# Altium schematic symbol library Battery_Management.SchLib: 152 symbols (part 1 of 2)
Pins are listed as number, name and electrical type; pins without a type are passive.

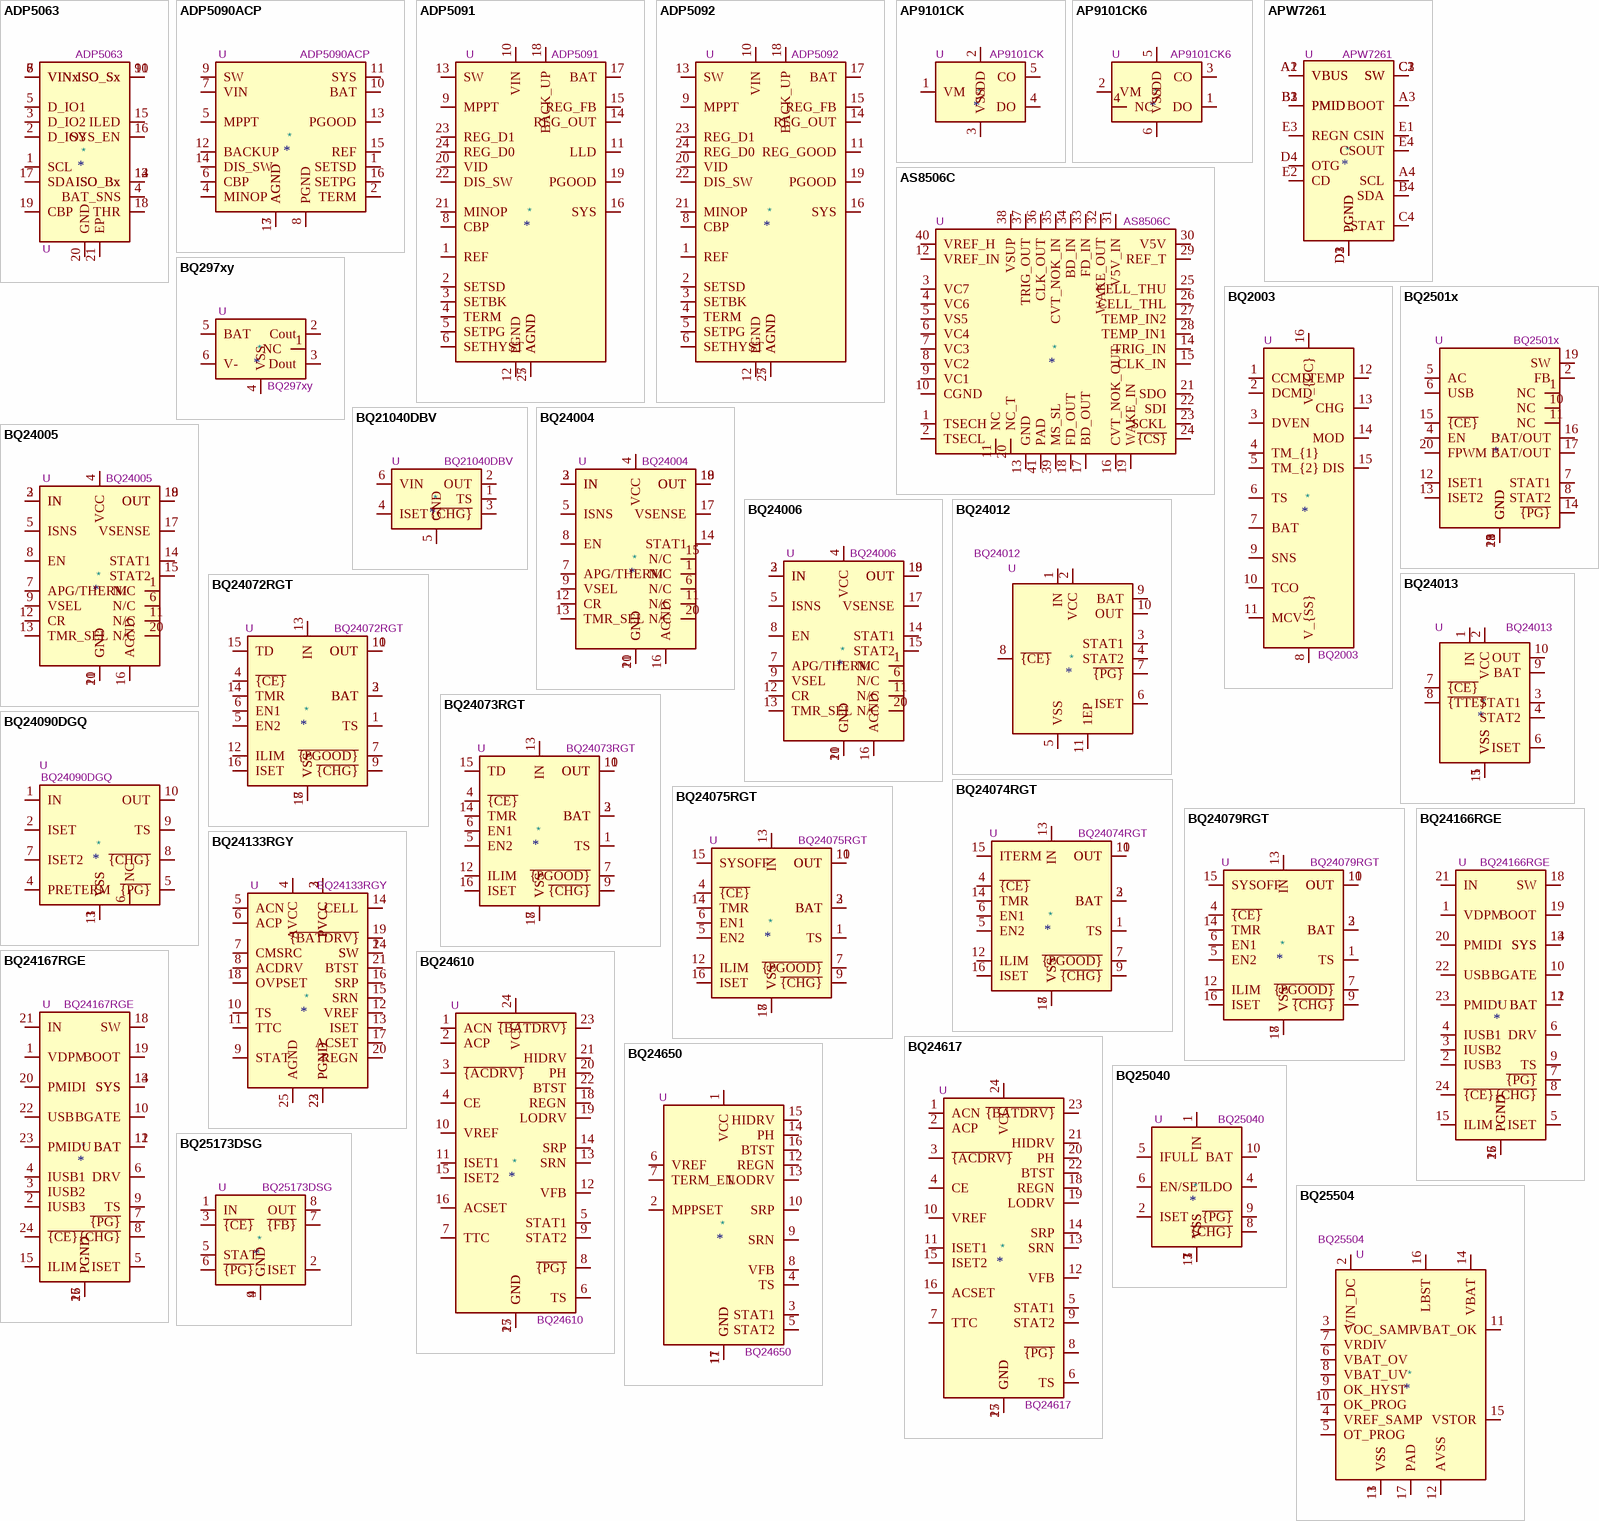
[diagram p0: symbols ADP5063 to BQ25504]

## ADP5063
designator *  value ADP5063  Reference: U
Linear LiFePO4 Battery Charger with Power Path and USB Compatibility, LFCSP; ki_keywords: LiFePo4 Battery USB PMIC; ki_fp_filters: *QFN*1EP*4x4mm*P0.5mm*; Footprint: Package_DFN_QFN:QFN-20-1EP_4x4mm_P0.5mm_EP2.5x2.5mm; Datasheet: https://www.analog.com/media/en/technical-documentation/data-sheets/ADP5063.pdf; Description_: Linear LiFePO4 Battery Charger with Power Path and USB Compatibility, LFCSP
pins: 1 SCL, 2 D_IO3, 3 D_IO2, 4 BAT_SNS, 5 D_IO1, 6 VINx, 7 VINx, 8 VINx, 9 ISO_Sx, 10 ISO_Sx, 11 ISO_Sx, 12 ISO_Bx, 13 ISO_Bx, 14 ISO_Bx, 15 ILED, 16 SYS_EN, 17 SDA, 18 THR, 19 CBP, 20 GND, 21 EP

## ADP5090ACP
designator *  value ADP5090ACP  Reference: U
Ultralow Power Boost Regulator with MPPT and Charge Management, LFCSP-16; ki_keywords: boost regulator MPPT charge; ki_fp_filters: LFCSP*1EP*3x3mm*P0.5mm*; Footprint: Package_CSP:LFCSP-16-1EP_3x3mm_P0.5mm_EP1.7x1.7mm; Datasheet: https://www.analog.com/media/en/technical-documentation/data-sheets/ADP5090.pdf; Description_: Ultralow Power Boost Regulator with MPPT and Charge Management, LFCSP-16
pins: 1 SETSD, 2 TERM, 3 AGND, 4 MINOP, 5 MPPT, 6 CBP, 7 VIN, 8 PGND, 9 SW, 10 BAT, 11 SYS, 12 BACKUP, 13 PGOOD, 14 DIS_SW, 15 REF, 16 SETPG, 17 AGND

## ADP5091
designator *  value ADP5091  Reference: U
Ultralow Power Energy Harvester PMUs with MPPT and Charge Management, LFCSP-24; ki_fp_filters: LFCSP*1EP*4x4mm*P0.5mm*; Footprint: Package_CSP:LFCSP-24-1EP_4x4mm_P0.5mm_EP2.3x2.3mm; Datasheet: https://www.analog.com/media/en/technical-documentation/data-sheets/ADP5091-5092.pdf; Description_: Ultralow Power Energy Harvester PMUs with MPPT and Charge Management, LFCSP-24; ki_keywords: energy harvester
pins: 1 REF, 2 SETSD, 3 SETBK, 4 TERM, 5 SETPG, 6 SETHYST, 7 AGND, 8 CBP, 9 MPPT, 10 VIN, 11 LLD, 12 PGND, 13 SW, 14 REG_OUT, 15 REG_FB, 16 SYS, 17 BAT, 18 BACK_UP, 19 PGOOD, 20 VID, 21 MINOP, 22 DIS_SW, 23 REG_D1, 24 REG_D0, 25 AGND

## ADP5092
designator *  value ADP5092  Reference: U
Ultralow Power Energy Harvester PMUs with MPPT and Charge Management, LFCSP-24; ki_fp_filters: LFCSP*1EP*4x4mm*P0.5mm*; Footprint: Package_CSP:LFCSP-24-1EP_4x4mm_P0.5mm_EP2.3x2.3mm; Datasheet: https://www.analog.com/media/en/technical-documentation/data-sheets/ADP5091-5092.pdf; Description_: Ultralow Power Energy Harvester PMUs with MPPT and Charge Management, LFCSP-24; ki_keywords: energy harvester
pins: 1 REF, 2 SETSD, 3 SETBK, 4 TERM, 5 SETPG, 6 SETHYST, 7 AGND, 8 CBP, 9 MPPT, 10 VIN, 11 REG_GOOD, 12 PGND, 13 SW, 14 REG_OUT, 15 REG_FB, 16 SYS, 17 BAT, 18 BACK_UP, 19 PGOOD, 20 VID, 21 MINOP, 22 DIS_SW, 23 REG_D1, 24 REG_D0, 25 AGND

## AP9101CK
designator *  value AP9101CK  Reference: U
Li+ Battery Protection IC for Single Cell Pack, SOT-23-5; ki_keywords: battery protection li-ion li-po; ki_fp_filters: SOT?23*; Footprint: Package_TO_SOT_SMD:SOT-23-5; Datasheet: https://www.diodes.com/assets/Datasheets/AP9101C.pdf; Description_: Li+ Battery Protection IC for Single Cell Pack, SOT-23-5
pins: 1 VM, 2 VDD, 3 VSS, 4 DO, 5 CO

## AP9101CK6
designator *  value AP9101CK6  Reference: U
Li+ Battery Protection IC for Single Cell Pack, SOT-23-6; ki_keywords: battery protection li-ion li-po; ki_fp_filters: SOT?23*; Footprint: Package_TO_SOT_SMD:SOT-23-6; Datasheet: https://www.diodes.com/assets/Datasheets/AP9101C.pdf; Description_: Li+ Battery Protection IC for Single Cell Pack, SOT-23-6
pins: 1 DO, 2 VM, 3 CO, 4 NC, 5 VDD, 6 VSS

## APW7261
designator *  value APW7261  Reference: U
USB-OTG switch-mode lithium battery charger, WLCSP-20; ki_keywords: lipo; ki_fp_filters: Anpec*WLCSP*1.76x2.03mm*Layout4x5*P0.4mm*; Footprint: Package_CSP:Anpec_WLCSP-20_1.76x2.03mm_Layout4x5_P0.4mm; Datasheet: https://www.lcsc.com/datasheet/lcsc_datasheet_2007032014_Anpec-Elec-APW7261HAI-TRG_C691404.pdf; Description_: USB-OTG switch-mode lithium battery charger, WLCSP-20
pins: A1 VBUS, A2 VBUS, A3 BOOT, A4 SCL, B1 PMID, B2 PMID, B3 PMID, B4 SDA, C1 SW, C2 SW, C3 SW, C4 STAT, D1 PGND, D2 PGND, D3 PGND, D4 OTG, E1 CSIN, E2 CD, E3 REGN, E4 CSOUT

## AS8506C
designator *  value AS8506C  Reference: U
Stackable cell monitor, cell balancer, 3-7 Cells, SPI Interface; ki_keywords: battery balance lithium charge afe; ki_fp_filters: QFN*6x6mm*P0.5mm*; Footprint: Package_DFN_QFN:QFN-40-1EP_6x6mm_P0.5mm_EP4.6x4.6mm; Datasheet: http://ams.com/eng/content/download/476603/1402377/252935; Description_: Stackable cell monitor, cell balancer, 3-7 Cells, SPI Interface
pins: 1 TSECH, 2 TSECL, 3 VC7, 4 VC6, 5 VS5, 6 VC4, 7 VC3, 8 VC2, 9 VC1, 10 CGND, 11 NC, 12 VREF_IN, 13 GND, 14 TRIG_IN, 15 CLK_IN, 16 CVT_NOK_OUT, 17 BD_OUT, 18 FD_OUT, 19 WAKE_IN, 20 NC_T, 21 SDO, 22 SDI, 23 SCKL, 24 ~{{CS}}, 25 CELL_THU, 26 CELL_THL, 27 TEMP_IN2, 28 TEMP_IN1, 29 REF_T, 30 V5V, 31 V5V_IN, 32 WAKE_OUT, 33 FD_IN, 34 BD_IN, 35 CVT_NOK_IN, 36 CLK_OUT, 37 TRIG_OUT, 38 VSUP, 39 MS_SL, 40 VREF_H, 41 PAD

## BQ297xy
designator *  value BQ297xy  Reference: U
Voltage and Current Protection for Single-Cell Li-Ion and Li-Polymer Batteries; ki_keywords: protection Li-Ion Li-Pol; ki_fp_filters: WSON*1.5x1.5mm*P0.5mm*; Footprint: Package_SON:WSON-6_1.5x1.5mm_P0.5mm; Datasheet: http://www.ti.com/lit/ds/symlink/bq2970.pdf; Description_: Voltage and Current Protection for Single-Cell Li-Ion and Li-Polymer Batteries
pins: 1 NC, 2 Cout, 3 Dout, 4 VSS, 5 BAT, 6 V-

## BQ2003
designator *  value BQ2003  Reference: U
Standalone switchmode NiCd/NiMH battery charger, 2-4 cells, negative dV and dT/dt termination; ki_keywords: battery nickel cadmium metal hydride; ki_fp_filters: DIP*W7.62mm* SOIC*7.5x10.3mm*P1.27mm*; Datasheet: http://www.ti.com/lit/ds/symlink/bq2003.pdf; Description_: Standalone switchmode NiCd/NiMH battery charger, 2-4 cells, negative dV and dT/dt termination
pins: 1 CCMD, 2 DCMD, 3 DVEN, 4 TM_{1}, 5 TM_{2}, 6 TS, 7 BAT, 8 V_{SS}, 9 SNS, 10 TCO, 11 MCV, 12 TEMP, 13 CHG, 14 MOD, 15 DIS, 16 V_{CC}

## BQ2501x
designator *  value BQ2501x  Reference: U
500mA Li-Ion Charger w/Integrated 150mA Synchronous Buck Converter, QFN-14; ki_keywords: Li-ion buck; ki_fp_filters: Texas?VQFN?RHL*; Footprint: Package_DFN_QFN:Texas_VQFN-RHL-20_ThermalVias; Datasheet: http://www.ti.com/lit/ds/symlink/bq25010.pdf; Description_: 500mA Li-Ion Charger w/Integrated 150mA Synchronous Buck Converter, QFN-14
pins: 1 NC, 2 FB, 3 GND, 4 EN, 5 AC, 6 USB, 7 STAT1, 8 STAT2, 9 GND, 10 NC, 11 NC, 12 ISET1, 13 ISET2, 14 ~{{PG}}, 15 ~{{CE}}, 16 BAT/OUT, 17 BAT/OUT, 18 GND, 19 SW, 20 FPWM, 21 GND

## BQ21040DBV
designator *  value BQ21040DBV  Reference: U
Single cell, 0.8A Li-Ion/Li-Po linear charge management controller, up to 30V input, 4.2V charge voltage, Open-Drain Status Output, Temperature sense input, SOT-23-6; ki_keywords: 1-cell battery charger lithium; ki_fp_filters: SOT?23*; Footprint: Package_TO_SOT_SMD:SOT-23-6; Datasheet: https://www.ti.com/lit/ds/symlink/bq21040.pdf; Description_: Single cell, 0.8A Li-Ion/Li-Po linear charge management controller, up to 30V input, 4.2V charge voltage, Open-Drain Status Output, Temperature sense input, SOT-23-6
pins: 1 TS, 2 OUT, 3 ~{{CHG}}, 4 ISET, 5 GND, 6 VIN

## BQ24004
designator *  value BQ24004  Reference: U
2-Cell Li-Ion Charge Management IC, HTSSOP-20; ki_fp_filters: HTSSOP*1EP*4.4x6.5mm*P0.65mm*; Footprint: Package_SO:HTSSOP-20-1EP_4.4x6.5mm_P0.65mm_EP3.4x6.5mm_Mask2.4x3.7mm; Datasheet: http://www.ti.com/lit/ds/symlink/bq24006.pdf; Description_: 2-Cell Li-Ion Charge Management IC, HTSSOP-20; ki_keywords: 2-Cell Li-Ion Charge
pins: 1 N/C, 2 IN, 3 IN, 4 VCC, 5 ISNS, 6 N/C, 7 APG/THERM, 8 EN, 9 VSEL, 10 GND, 11 N/C, 12 CR, 13 TMR_SEL, 14 STAT1, 15 N/C, 16 AGND, 17 VSENSE, 18 OUT, 19 OUT, 20 N/C, 21 GND

## BQ24005
designator *  value BQ24005  Reference: U
2-Cell Li-Ion Charge Management IC, HTSSOP-20; ki_fp_filters: HTSSOP*1EP*4.4x6.5mm*P0.65mm*; Footprint: Package_SO:HTSSOP-20-1EP_4.4x6.5mm_P0.65mm_EP3.4x6.5mm_Mask2.4x3.7mm; Datasheet: http://www.ti.com/lit/ds/symlink/bq24006.pdf; Description_: 2-Cell Li-Ion Charge Management IC, HTSSOP-20; ki_keywords: 2-Cell Li-Ion Charge
pins: 1 N/C, 2 IN, 3 IN, 4 VCC, 5 ISNS, 6 N/C, 7 APG/THERM, 8 EN, 9 VSEL, 10 GND, 11 N/C, 12 CR, 13 TMR_SEL, 14 STAT1, 15 STAT2, 16 AGND, 17 VSENSE, 18 OUT, 19 OUT, 20 N/C, 21 GND

## BQ24006
designator *  value BQ24006  Reference: U
2-Cell Li-Ion Charge Management IC, HTSSOP-20; ki_fp_filters: HTSSOP*1EP*4.4x6.5mm*P0.65mm*; Footprint: Package_SO:HTSSOP-20-1EP_4.4x6.5mm_P0.65mm_EP3.4x6.5mm_Mask2.4x3.7mm; Datasheet: http://www.ti.com/lit/ds/symlink/bq24006.pdf; Description_: 2-Cell Li-Ion Charge Management IC, HTSSOP-20; ki_keywords: 2-Cell Li-Ion Charge
pins: 1 N/C, 2 IN, 3 IN, 4 VCC, 5 ISNS, 6 N/C, 7 APG/THERM, 8 EN, 9 VSEL, 10 GND, 11 N/C, 12 CR, 13 TMR_SEL, 14 STAT1, 15 STAT2, 16 AGND, 17 VSENSE, 18 OUT, 19 OUT, 20 N/C, 21 GND

## BQ24012
designator *  value BQ24012  Reference: U
Single-Chip Li-Ion Charge Management IC, DFN-10; ki_keywords: Battery Charger Li-Ion; ki_fp_filters: VSON*1EP*3x3mm*P0.5mm*; Footprint: Package_SON:VSON-10-1EP_3x3mm_P0.5mm_EP1.65x2.4mm_ThermalVias; Datasheet: http://www.ti.com/lit/ds/symlink/bq24012.pdf; Description_: Single-Chip Li-Ion Charge Management IC, DFN-10
pins: 1 IN, 2 VCC, 3 STAT1, 4 STAT2, 5 VSS, 6 ISET, 7 ~{{PG}}, 8 ~{{CE}}, 9 BAT, 10 OUT, 11 1EP

## BQ24013
designator *  value BQ24013  Reference: U
Single-Chip Li-Ion Charge Management IC, VSON-10; ki_keywords: Batter Charger Li-Ion; ki_fp_filters: Texas*DRC0010J*; Footprint: Package_SON:Texas_DRC0010J_ThermalVias; Datasheet: http://www.ti.com/lit/ds/symlink/bq24012.pdf; Description_: Single-Chip Li-Ion Charge Management IC, VSON-10
pins: 1 IN, 2 VCC, 3 STAT1, 4 STAT2, 5 VSS, 6 ISET, 7 ~{{CE}}, 8 ~{{TTE}}, 9 BAT, 10 OUT, 11 VSS

## BQ24072RGT
designator *  value BQ24072RGT  Reference: U
USB-Friendly Li-Ion Battery Charger and Power-Path Management, VQFN-16; ki_keywords: USB Charger; ki_fp_filters: VQFN*1EP*3x3mm*P0.5mm*; Footprint: Package_DFN_QFN:VQFN-16-1EP_3x3mm_P0.5mm_EP1.6x1.6mm; Datasheet: http://www.ti.com/lit/ds/symlink/bq24072.pdf; Description_: USB-Friendly Li-Ion Battery Charger and Power-Path Management, VQFN-16
pins: 1 TS, 2 BAT, 3 BAT, 4 ~{{CE}}, 5 EN2, 6 EN1, 7 ~{{PGOOD}}, 8 VSS, 9 ~{{CHG}}, 10 OUT, 11 OUT, 12 ILIM, 13 IN, 14 TMR, 15 TD, 16 ISET, 17 VSS

## BQ24073RGT
designator *  value BQ24073RGT  Reference: U
USB-Friendly Li-Ion Battery Charger and Power-Path Management, VQFN-16; ki_keywords: USB Charger; ki_fp_filters: VQFN*1EP*3x3mm*P0.5mm*; Footprint: Package_DFN_QFN:VQFN-16-1EP_3x3mm_P0.5mm_EP1.6x1.6mm; Datasheet: http://www.ti.com/lit/ds/symlink/bq24073.pdf; Description_: USB-Friendly Li-Ion Battery Charger and Power-Path Management, VQFN-16
pins: 1 TS, 2 BAT, 3 BAT, 4 ~{{CE}}, 5 EN2, 6 EN1, 7 ~{{PGOOD}}, 8 VSS, 9 ~{{CHG}}, 10 OUT, 11 OUT, 12 ILIM, 13 IN, 14 TMR, 15 TD, 16 ISET, 17 VSS

## BQ24074RGT
designator *  value BQ24074RGT  Reference: U
USB-Friendly Li-Ion Battery Charger and Power-Path Management, VQFN-16; ki_keywords: USB Charger; ki_fp_filters: VQFN*1EP*3x3mm*P0.5mm*; Footprint: Package_DFN_QFN:VQFN-16-1EP_3x3mm_P0.5mm_EP1.6x1.6mm; Datasheet: http://www.ti.com/lit/ds/symlink/bq24074.pdf; Description_: USB-Friendly Li-Ion Battery Charger and Power-Path Management, VQFN-16
pins: 1 TS, 2 BAT, 3 BAT, 4 ~{{CE}}, 5 EN2, 6 EN1, 7 ~{{PGOOD}}, 8 VSS, 9 ~{{CHG}}, 10 OUT, 11 OUT, 12 ILIM, 13 IN, 14 TMR, 15 ITERM, 16 ISET, 17 VSS

## BQ24075RGT
designator *  value BQ24075RGT  Reference: U
USB-Friendly Li-Ion Battery Charger and Power-Path Management, VQFN-16; ki_keywords: USB Charger; ki_fp_filters: VQFN*1EP*3x3mm*P0.5mm*; Footprint: Package_DFN_QFN:VQFN-16-1EP_3x3mm_P0.5mm_EP1.6x1.6mm; Datasheet: http://www.ti.com/lit/ds/symlink/bq24075.pdf; Description_: USB-Friendly Li-Ion Battery Charger and Power-Path Management, VQFN-16
pins: 1 TS, 2 BAT, 3 BAT, 4 ~{{CE}}, 5 EN2, 6 EN1, 7 ~{{PGOOD}}, 8 VSS, 9 ~{{CHG}}, 10 OUT, 11 OUT, 12 ILIM, 13 IN, 14 TMR, 15 SYSOFF, 16 ISET, 17 VSS

## BQ24079RGT
designator *  value BQ24079RGT  Reference: U
USB-Friendly Li-Ion Battery Charger and Power-Path Management, VQFN-16; ki_keywords: USB Charger; ki_fp_filters: VQFN*1EP*3x3mm*P0.5mm*; Footprint: Package_DFN_QFN:VQFN-16-1EP_3x3mm_P0.5mm_EP1.6x1.6mm; Datasheet: http://www.ti.com/lit/ds/symlink/bq24079.pdf; Description_: USB-Friendly Li-Ion Battery Charger and Power-Path Management, VQFN-16
pins: 1 TS, 2 BAT, 3 BAT, 4 ~{{CE}}, 5 EN2, 6 EN1, 7 ~{{PGOOD}}, 8 VSS, 9 ~{{CHG}}, 10 OUT, 11 OUT, 12 ILIM, 13 IN, 14 TMR, 15 SYSOFF, 16 ISET, 17 VSS

## BQ24090DGQ
designator *  value BQ24090DGQ  Reference: U
1A, Single-Input, SingleCell Li-Ion and Li-Pol BatteryCharger, HVSSOP-10; ki_keywords: battery charger singlecell li-ion li-poly; ki_fp_filters: HVSSOP*1EP*3x3mm*P0.5mm*; Footprint: Package_SO:HVSSOP-10-1EP_3x3mm_P0.5mm_EP1.57x1.88mm_ThermalVias; Datasheet: http://www.ti.com/lit/ds/symlink/bq24090.pdf; Description_: 1A, Single-Input, SingleCell Li-Ion and Li-Pol BatteryCharger, HVSSOP-10
pins: 1 IN, 2 ISET, 3 VSS, 4 PRETERM, 5 ~{{PG}}, 6 NC, 7 ISET2, 8 ~{{CHG}}, 9 TS, 10 OUT, 11 VSS

## BQ24133RGY
designator *  value BQ24133RGY  Reference: U
Synchronous switched mode Li-Ion and Li-Polymer battery charger, integrated MOSFETs and power path selector, Texas R-PVQFN-N24; ki_keywords: Battery Charger Li-Ion Li-Poly; ki_fp_filters: Texas*RGY*R*PVQFN*N*; Footprint: Package_DFN_QFN:Texas_RGY_R-PVQFN-N24_EP2.05x3.1mm; Datasheet: http://www.ti.com/lit/ds/symlink/bq24133.pdf; Description_: Synchronous switched mode Li-Ion and Li-Polymer battery charger, integrated MOSFETs and power path selector, Texas R-PVQFN-N24
pins: 1 SW, 2 PVCC, 3 PVCC, 4 AVCC, 5 ACN, 6 ACP, 7 CMSRC, 8 ACDRV, 9 STAT, 10 TS, 11 TTC, 12 VREF, 13 ISET, 14 CELL, 15 SRN, 16 SRP, 17 ACSET, 18 OVPSET, 19 ~{{BATDRV}}, 20 REGN, 21 BTST, 22 PGND, 23 PGND, 24 SW, 25 AGND

## BQ24166RGE
designator *  value BQ24166RGE  Reference: U
High efficiency switched mode Li-Ion and Li-Polymer battery charger, integrated MOSFETs, power path selector and standard temperature sensing, Texas R-RGE0024H; ki_keywords: Battery Charger Li-Ion Li-Poly; ki_fp_filters: Texas*RGE0024H*; Footprint: Package_DFN_QFN:Texas_RGE0024H_VQFN-24-1EP_4x4mm_P0.5mm_EP2.7x2.7mm; Datasheet: https://www.ti.com/lit/ds/symlink/bq24166.pdf; Description_: High efficiency switched mode Li-Ion and Li-Polymer battery charger, integrated MOSFETs, power path selector and standard temperature sensing, Texas R-RGE0024H
pins: 1 VDPM, 2 IUSB3, 3 IUSB2, 4 IUSB1, 5 ISET, 6 DRV, 7 ~{{PG}}, 8 ~{{CHG}}, 9 TS, 10 BGATE, 11 BAT, 12 BAT, 13 SYS, 14 SYS, 15 ILIM, 16 PGND, 17 PGND, 18 SW, 19 BOOT, 20 PMIDI, 21 IN, 22 USB, 23 PMIDU, 24 ~{{CE}}, 25 PGND

## BQ24167RGE
designator *  value BQ24167RGE  Reference: U
High efficiency switched mode Li-Ion and Li-Polymer battery charger, integrated MOSFETs, power path selector and JEITA compatible temperature sensing, Texas R-RGE0024H; ki_keywords: Battery Charger Li-Ion Li-Poly; ki_fp_filters: Texas*RGE0024H*; Footprint: Package_DFN_QFN:Texas_RGE0024H_VQFN-24-1EP_4x4mm_P0.5mm_EP2.7x2.7mm; Datasheet: https://www.ti.com/lit/ds/symlink/bq24166.pdf; Description_: High efficiency switched mode Li-Ion and Li-Polymer battery charger, integrated MOSFETs, power path selector and JEITA compatible temperature sensing, Texas R-RGE0024H
pins: 1 VDPM, 2 IUSB3, 3 IUSB2, 4 IUSB1, 5 ISET, 6 DRV, 7 ~{{PG}}, 8 ~{{CHG}}, 9 TS, 10 BGATE, 11 BAT, 12 BAT, 13 SYS, 14 SYS, 15 ILIM, 16 PGND, 17 PGND, 18 SW, 19 BOOT, 20 PMIDI, 21 IN, 22 USB, 23 PMIDU, 24 ~{{CE}}, 25 PGND

## BQ24610
designator *  value BQ24610  Reference: U
10A, 28V max voltage, Li-Ion Charger w/600kHz NMOS-NMOS Synchronous Buck Converter, VQFN-24; ki_keywords: Li-ion buck; ki_fp_filters: VQFN*1EP*4x4mm*P0.5mm*; Footprint: Package_DFN_QFN:VQFN-24-1EP_4x4mm_P0.5mm_EP2.45x2.45mm; Datasheet: https://www.ti.com/lit/ds/symlink/bq24610.pdf; Description_: 10A, 28V max voltage, Li-Ion Charger w/600kHz NMOS-NMOS Synchronous Buck Converter, VQFN-24
pins: 1 ACN, 2 ACP, 3 ~{{ACDRV}}, 4 CE, 5 STAT1, 6 TS, 7 TTC, 8 ~{{PG}}, 9 STAT2, 10 VREF, 11 ISET1, 12 VFB, 13 SRN, 14 SRP, 15 ISET2, 16 ACSET, 17 GND, 18 REGN, 19 LODRV, 20 PH, 21 HIDRV, 22 BTST, 23 ~{{BATDRV}}, 24 VCC, 25 GND

## BQ24617
designator *  value BQ24617  Reference: U
10A, 24V max voltage, Li-Ion Charger w/600kHz NMOS-NMOS Synchronous Buck Converter, VQFN-24; ki_keywords: Li-ion buck; ki_fp_filters: VQFN*1EP*4x4mm*P0.5mm*; Footprint: Package_DFN_QFN:VQFN-24-1EP_4x4mm_P0.5mm_EP2.45x2.45mm; Datasheet: https://www.ti.com/lit/ds/symlink/bq24610.pdf; Description_: 10A, 24V max voltage, Li-Ion Charger w/600kHz NMOS-NMOS Synchronous Buck Converter, VQFN-24
pins: 1 ACN, 2 ACP, 3 ~{{ACDRV}}, 4 CE, 5 STAT1, 6 TS, 7 TTC, 8 ~{{PG}}, 9 STAT2, 10 VREF, 11 ISET1, 12 VFB, 13 SRN, 14 SRP, 15 ISET2, 16 ACSET, 17 GND, 18 REGN, 19 LODRV, 20 PH, 21 HIDRV, 22 BTST, 23 ~{{BATDRV}}, 24 VCC, 25 GND

## BQ24650
designator *  value BQ24650  Reference: U
10A, 28V max voltage, Battery Charger w/600kHz NMOS-NMOS Synchronous Buck Converter for Solar, VQFN-16; ki_keywords: li-ion lion lipo lithium polymer iron phosphate lead acid buck solar power point battery charger; ki_fp_filters: Texas*RVA*1EP*3.5x3.5mm*P0.5mm*; Footprint: Package_DFN_QFN:Texas_RVA_VQFN-16-1EP_3.5x3.5mm_P0.5mm_EP2.14x2.14mm_ThermalVias; Datasheet: https://www.ti.com/lit/ds/symlink/bq24650.pdf; Description_: 10A, 28V max voltage, Battery Charger w/600kHz NMOS-NMOS Synchronous Buck Converter for Solar, VQFN-16
pins: 1 VCC, 2 MPPSET, 3 STAT1, 4 TS, 5 STAT2, 6 VREF, 7 TERM_EN, 8 VFB, 9 SRN, 10 SRP, 11 GND, 12 REGN, 13 LODRV, 14 PH, 15 HIDRV, 16 BTST, 17 GND

## BQ25040
designator *  value BQ25040  Reference: U
1.1A, single cell Li-ion battery charger with 50mA LDO, up to 30V input, WSON-10; ki_keywords: lithium; ki_fp_filters: WSON*10*1EP*2x3mm*P0.5mm*EP0.84x2.4mm*; Footprint: Package_SON:WSON-10-1EP_2x3mm_P0.5mm_EP0.84x2.4mm_ThermalVias; Datasheet: https://www.ti.com/lit/ds/symlink/bq25040.pdf; Description_: 1.1A, single cell Li-ion battery charger with 50mA LDO, up to 30V input, WSON-10
pins: 1 IN, 2 ISET, 3 VSS, 4 LDO, 5 IFULL, 6 EN/SET, 7 VSS, 8 ~{{CHG}}, 9 ~{{PG}}, 10 BAT, 11 VSS

## BQ25173DSG
designator *  value BQ25173DSG  Reference: U
800-mA Linear Charger for 1- to 4-Cell Supercapacitor, input 3 to 18v, WSON-8; ki_keywords: linear charger supercapacitor; ki_fp_filters: WSON*1EP*2x2mm*P0.5mm*; Footprint: Package_SON:WSON-8-1EP_2x2mm_P0.5mm_EP0.9x1.6mm; Datasheet: https://www.ti.com/lit/ds/symlink/bq25173.pdf; Description_: 800-mA Linear Charger for 1- to 4-Cell Supercapacitor, input 3 to 18v, WSON-8
pins: 1 IN, 2 ISET, 3 ~{{CE}}, 4 GND, 5 STAT, 6 ~{{PG}}, 7 ~{{FB}}, 8 OUT, 9 GND

## BQ25504
designator *  value BQ25504  Reference: U
Energy Harvesting Boost Converter with Battery Management, VQFN-16; ki_keywords: energy harvesting li-ion battery solar TEG; ki_fp_filters: *QFN*3x3mm*P0.5mm*; Footprint: Package_DFN_QFN:VQFN-16-1EP_3x3mm_P0.5mm_EP1.68x1.68mm; Datasheet: http://www.ti.com/lit/ds/symlink/bq25504.pdf; Description_: Energy Harvesting Boost Converter with Battery Management, VQFN-16
pins: 1 VSS, 2 VIN_DC, 3 VOC_SAMP, 4 VREF_SAMP, 5 OT_PROG, 6 VBAT_OV, 7 VRDIV, 8 VBAT_UV, 9 OK_HYST, 10 OK_PROG, 11 VBAT_OK, 12 AVSS, 13 VSS, 14 VBAT, 15 VSTOR, 16 LBST, 17 PAD

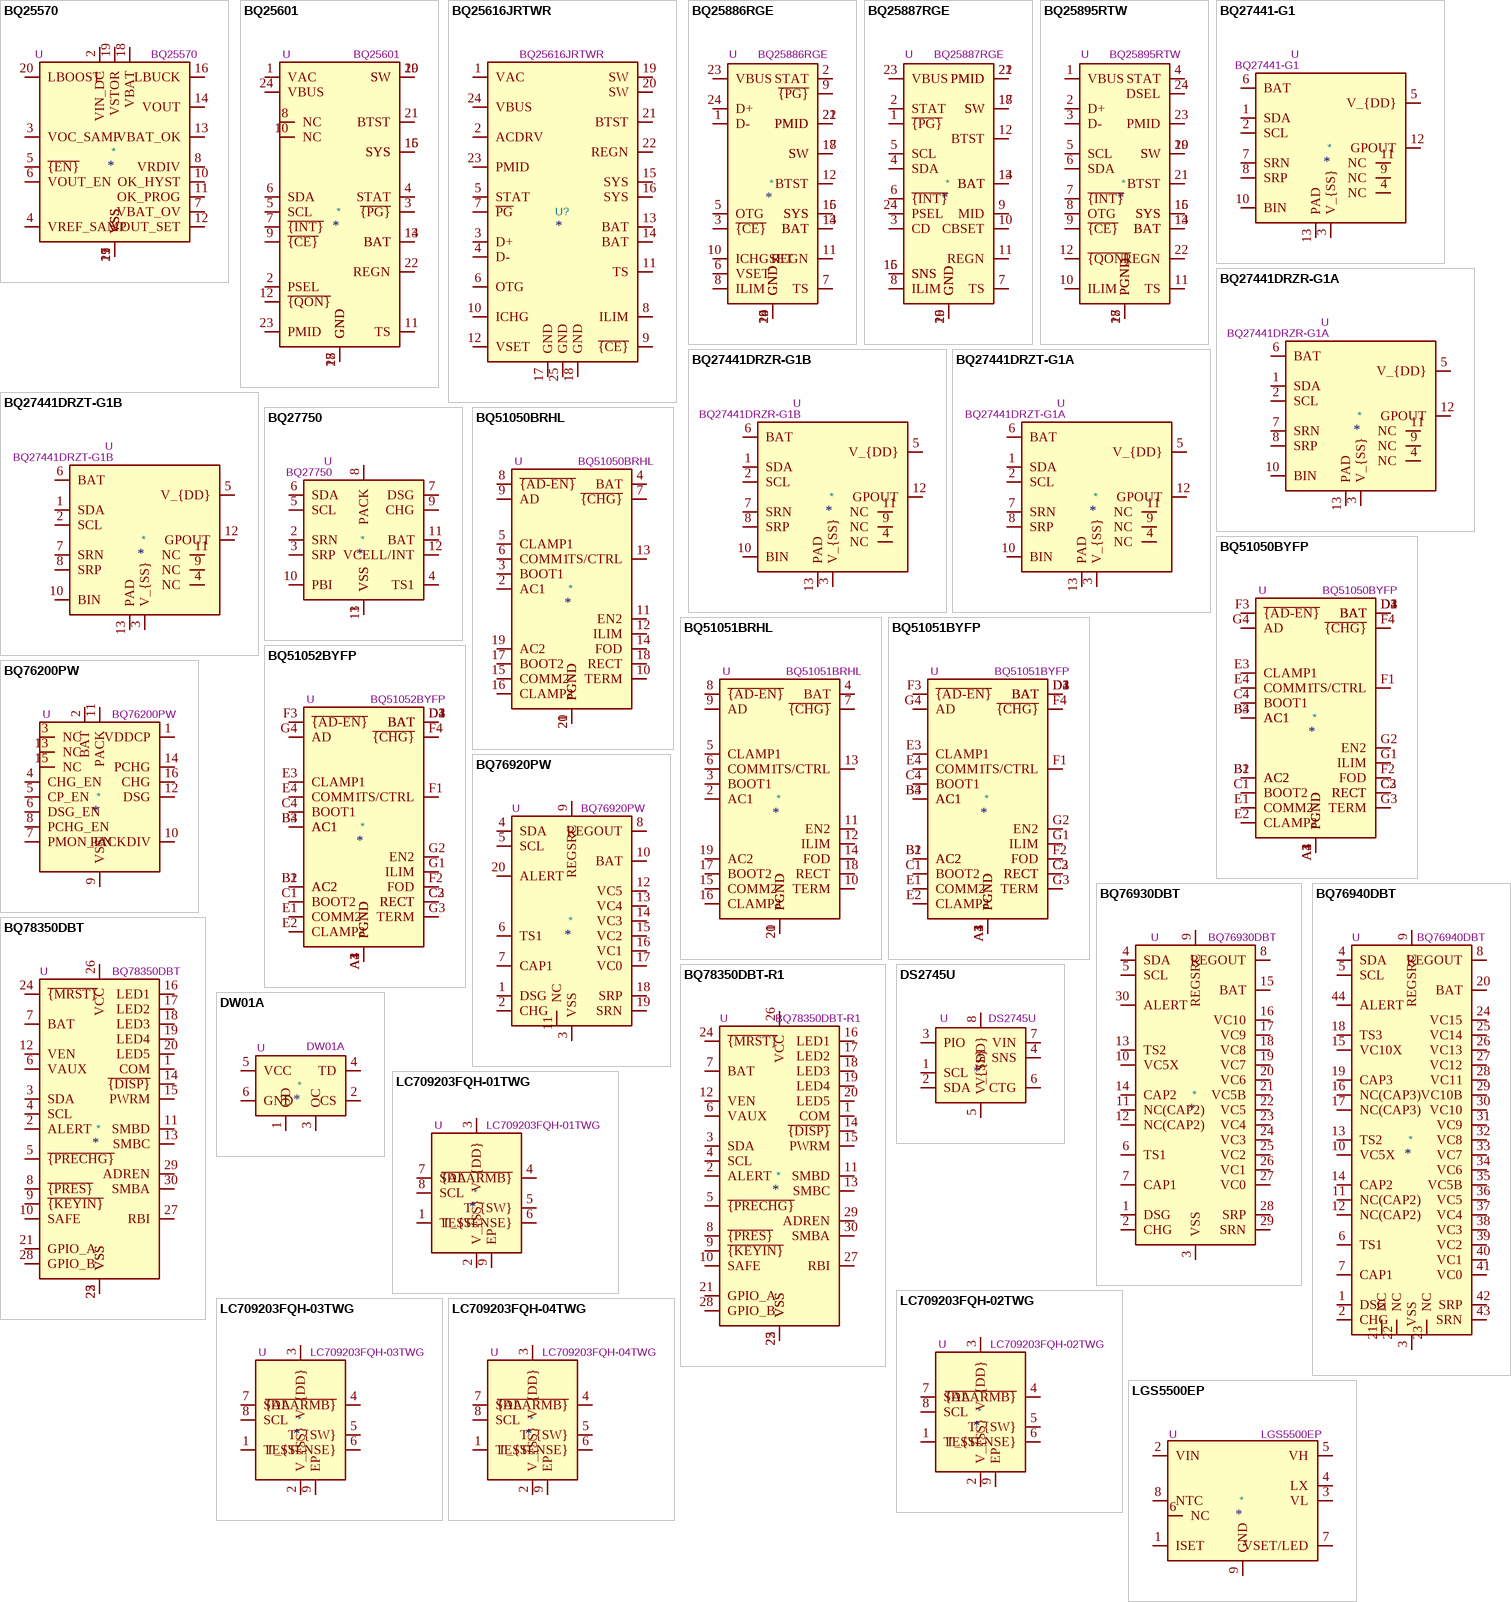
[diagram p1: symbols BQ25570 to LGS5500EP]

## BQ25570
designator *  value BQ25570  Reference: U
Nano Power Boost Charger and Buck Converter for Energy Harvester Powered Applications, QFN-20; ki_keywords: harvester solar TEG charger li-on buck; ki_fp_filters: QFN*1EP*3.5x3.5mm*P0.5mm*; Footprint: Package_DFN_QFN:QFN-20-1EP_3.5x3.5mm_P0.5mm_EP2x2mm; Datasheet: http://www.ti.com/lit/ds/symlink/bq25570.pdf; Description_: Nano Power Boost Charger and Buck Converter for Energy Harvester Powered Applications, QFN-20
pins: 1 VSS, 2 VIN_DC, 3 VOC_SAMP, 4 VREF_SAMP, 5 ~{{EN}}, 6 VOUT_EN, 7 VBAT_OV, 8 VRDIV, 9 VSS, 10 OK_HYST, 11 OK_PROG, 12 VOUT_SET, 13 VBAT_OK, 14 VOUT, 15 VSS, 16 LBUCK, 17 VSS, 18 VBAT, 19 VSTOR, 20 LBOOST, 21 VSS

## BQ25601
designator *  value BQ25601  Reference: U
I2C Controlled 3A Single-Cell Battery Charger for High Input Voltage and Narrow Voltage DC Power Path Management, WQFN-32; ki_keywords: LiPO charger; ki_fp_filters: Texas*RTW*EP2.7x2.7mm*; Footprint: Package_DFN_QFN:Texas_RTW_WQFN-24-1EP_4x4mm_P0.5mm_EP2.7x2.7mm_ThermalVias; Datasheet: http://www.ti.com/lit/ds/symlink/bq25601.pdf; Description_: I2C Controlled 3A Single-Cell Battery Charger for High Input Voltage and Narrow Voltage DC Power Path Management, WQFN-32
pins: 1 VAC, 2 PSEL, 3 ~{{PG}}, 4 STAT, 5 SCL, 6 SDA, 7 ~{{INT}}, 8 NC, 9 ~{{CE}}, 10 NC, 11 TS, 12 ~{{QON}}, 13 BAT, 14 BAT, 15 SYS, 16 SYS, 17 GND, 18 GND, 19 SW, 20 SW, 21 BTST, 22 REGN, 23 PMID, 24 VBUS, 25 GND

## BQ25616JRTWR
designator U?  value BQ25616JRTWR
BQ25616/616J Standalone 1-Cell 3.0-A Buck Battery Charger with Power Path and 1.2-A Boost Operation; Manufacturer: Texas Instruments; Manufacturer Lifecycle Status: ACTIVE; ki_keywords: LiPO charger; ki_fp_filters: Texas*RTW*EP2.7x2.7mm*; Reference: U; DNP: P; Footprint: WQFN 4 x 4, 0.5 mm pitch; Datasheet: https://www.ti.com/product/BQ25616/part-details/BQ25616JRTWR; Description_: Standalone 1-cell 3.0-A buck battery charger with power path and 1.2-A boost operation; Category: Battery Management; Height: 800µm; Length: 4mm; Lifecycle Status: Production; Manufacturer Part Number: BQ25616JRTWR; Pins: 24; RoHS: Compliant; Schedule B: 8542390000; Thickness: 750µm; Width: 4mm; Supplier 1: Mouser; Supplier Part Number 1: 595-BQ25616JRTWR; Supplier Packaging 1: Tape & Reel; Supplier Unit Price 1: $2.82; Supplier Location 1: US
footprint QFN-24-1EP_4x4mm_P0.5mm_EP2.15x2.15mm_ThermalVias
footprint QFN-24-1EP_4x4mm_P0.5mm_EP2.15x2.15mm
footprint QFN-24-1EP_4x4mm_P0.5mm_EP2.15x2.15mm_ThermalVias_Bottom (QFN-24-1EP_4x4mm_P0.5mm_EP2.15x2.15mm_ThermalVias)
pins: 1 VAC, 2 ACDRV, 3 D+, 4 D-, 5 STAT, 6 OTG, 7 ~{PG}, 8 ILIM, 9 ~{{CE}}, 10 ICHG, 11 TS, 12 VSET, 13 BAT, 14 BAT, 15 SYS, 16 SYS, 17 GND, 18 GND, 19 SW, 20 SW, 21 BTST, 22 REGN, 23 PMID, 24 VBUS, 25 GND

## BQ25886RGE
designator *  value BQ25886RGE  Reference: U
Standalone 2-Cell (Li-Ion / Li-Polymer), 2A Boost-Mode Battery Charger With PowerPath, USB BC1.2 Detection, USB On-The-Go Boost (OTG), 4.3..6.2V VBUS, 8.2/8.4/8.7/8.8V charge voltage, 9.2V BATOVP, 1.5MHz, VQFN-24; ki_keywords: Power-Path-Management; ki_fp_filters: *VQFN*4x4mm*P0.5mm*EP2.7x2.7*; Footprint: Package_DFN_QFN:Texas_RGE0024H_VQFN-24-1EP_4x4mm_P0.5mm_EP2.7x2.7mm; Datasheet: http://www.ti.com/lit/ds/symlink/bq25886.pdf; Description_: Standalone 2-Cell (Li-Ion / Li-Polymer), 2A Boost-Mode Battery Charger With PowerPath, USB BC1.2 Detection, USB On-The-Go Boost (OTG), 4.3..6.2V VBUS, 8.2/8.4/8.7/8.8V charge voltage, 9.2V BATOVP, 1.5MHz, VQFN-24
pins: 1 D-, 2 STAT, 3 ~{{CE}}, 4 GND, 5 OTG, 6 VSET, 7 TS, 8 ILIM, 9 ~{{PG}}, 10 ICHGSET, 11 REGN, 12 BTST, 13 BAT, 14 BAT, 15 SYS, 16 SYS, 17 SW, 18 SW, 19 GND, 20 GND, 21 PMID, 22 PMID, 23 VBUS, 24 D+, 25 GND

## BQ25887RGE
designator *  value BQ25887RGE  Reference: U
I2C Controlled 2-Cell (Li-Ion / Li-Polymer), 2A boost-mode battery charger with cell balancing for USB input, 3.9..6.2V VBUS, 3.4..4.6V charge voltage regulation range (per cell), 1.5 MHz, VQFN-24; ki_keywords: Texas-Instruments; ki_fp_filters: *VQFN*4x4mm*P0.5mm*EP2.7*x2.7*mm*; Footprint: Package_DFN_QFN:Texas_RGE0024H_VQFN-24-1EP_4x4mm_P0.5mm_EP2.7x2.7mm; Datasheet: https://www.ti.com/lit/ds/symlink/bq25887.pdf; Description_: I2C Controlled 2-Cell (Li-Ion / Li-Polymer), 2A boost-mode battery charger with cell balancing for USB input, 3.9..6.2V VBUS, 3.4..4.6V charge voltage regulation range (per cell), 1.5 MHz, VQFN-24
pins: 1 ~{{PG}}, 2 STAT, 3 CD, 4 SDA, 5 SCL, 6 ~{{INT}}, 7 TS, 8 ILIM, 9 MID, 10 CBSET, 11 REGN, 12 BTST, 13 BAT, 14 BAT, 15 SNS, 16 SNS, 17 SW, 18 SW, 19 GND, 20 GND, 21 PMID, 22 PMID, 23 VBUS, 24 PSEL, 25 GND

## BQ25895RTW
designator *  value BQ25895RTW  Reference: U
I2C Controlled Single Cell (Li-Ion / Li-Polymer) 5A Fast Charger with MaxCharge, USB BC1.2 Detection, 3.9..14V VBUS, 3.840..4.608V charge voltage range, 1.5 MHz (buck mode) and 500 kHz /1.5 MHz (boost mode), WQFN-24; ki_keywords: 1-cell Battery-Charger Power-Path-Management OTG; ki_fp_filters: *WQFN*4x4mm*P0.5mm*EP2.7*x2.7*mm*; Footprint: Package_DFN_QFN:Texas_RTW_WQFN-24-1EP_4x4mm_P0.5mm_EP2.7x2.7mm_ThermalVias; Datasheet: http://www.ti.com/lit/ds/symlink/bq25895.pdf; Description_: I2C Controlled Single Cell (Li-Ion / Li-Polymer) 5A Fast Charger with MaxCharge, USB BC1.2 Detection, 3.9..14V VBUS, 3.840..4.608V charge voltage range, 1.5 MHz (buck mode) and 500 kHz /1.5 MHz (boost mode), WQFN-24
pins: 1 VBUS, 2 D+, 3 D-, 4 STAT, 5 SCL, 6 SDA, 7 ~{{INT}}, 8 OTG, 9 ~{{CE}}, 10 ILIM, 11 TS, 12 ~{{QON}}, 13 BAT, 14 BAT, 15 SYS, 16 SYS, 17 PGND, 18 PGND, 19 SW, 20 SW, 21 BTST, 22 REGN, 23 PMID, 24 DSEL, 25 PGND

## BQ27441-G1
designator *  value BQ27441-G1  Reference: U
System Side Li Ion/Polymer Fuel Gauge, PDSON-12; ki_fp_filters: *PDSO*N12*; Footprint: Package_SON:Texas_S-PDSO-N12; Datasheet: http://www.ti.com/lit/ds/symlink/bq27441-g1.pdf; Description_: System Side Li Ion/Polymer Fuel Gauge, PDSON-12; ki_keywords: Fuel Gauge
pins: 1 SDA, 2 SCL, 3 V_{SS}, 4 NC, 5 V_{DD}, 6 BAT, 7 SRN, 8 SRP, 9 NC, 10 BIN, 11 NC, 12 GPOUT, 13 PAD

## BQ27441DRZR-G1A
designator *  value BQ27441DRZR-G1A  Reference: U
System Side Li Ion/Polymer Fuel Gauge, 4.2V, PDSON-12; ki_fp_filters: *PDSO*N12*; Footprint: Package_SON:Texas_S-PDSO-N12; Datasheet: http://www.ti.com/lit/ds/symlink/bq27441-g1.pdf; Description_: System Side Li Ion/Polymer Fuel Gauge, 4.2V, PDSON-12; ki_keywords: Fuel Gauge
pins: 1 SDA, 2 SCL, 3 V_{SS}, 4 NC, 5 V_{DD}, 6 BAT, 7 SRN, 8 SRP, 9 NC, 10 BIN, 11 NC, 12 GPOUT, 13 PAD

## BQ27441DRZR-G1B
designator *  value BQ27441DRZR-G1B  Reference: U
System Side Li Ion/Polymer Fuel Gauge, 4.30-4.35V, PDSON-12; ki_fp_filters: *PDSO*N12*; Footprint: Package_SON:Texas_S-PDSO-N12; Datasheet: http://www.ti.com/lit/ds/symlink/bq27441-g1.pdf; Description_: System Side Li Ion/Polymer Fuel Gauge, 4.30-4.35V, PDSON-12; ki_keywords: Fuel Gauge
pins: 1 SDA, 2 SCL, 3 V_{SS}, 4 NC, 5 V_{DD}, 6 BAT, 7 SRN, 8 SRP, 9 NC, 10 BIN, 11 NC, 12 GPOUT, 13 PAD

## BQ27441DRZT-G1A
designator *  value BQ27441DRZT-G1A  Reference: U
System Side Li Ion/Polymer Fuel Gauge, 4.2V, PDSON-12; ki_fp_filters: *PDSO*N12*; Footprint: Package_SON:Texas_S-PDSO-N12; Datasheet: http://www.ti.com/lit/ds/symlink/bq27441-g1.pdf; Description_: System Side Li Ion/Polymer Fuel Gauge, 4.2V, PDSON-12; ki_keywords: Fuel Gauge
pins: 1 SDA, 2 SCL, 3 V_{SS}, 4 NC, 5 V_{DD}, 6 BAT, 7 SRN, 8 SRP, 9 NC, 10 BIN, 11 NC, 12 GPOUT, 13 PAD

## BQ27441DRZT-G1B
designator *  value BQ27441DRZT-G1B  Reference: U
System Side Li Ion/Polymer Fuel Gauge, 4.30-4.35V, PDSON-12; ki_fp_filters: *PDSO*N12*; Footprint: Package_SON:Texas_S-PDSO-N12; Datasheet: http://www.ti.com/lit/ds/symlink/bq27441-g1.pdf; Description_: System Side Li Ion/Polymer Fuel Gauge, 4.30-4.35V, PDSON-12; ki_keywords: Fuel Gauge
pins: 1 SDA, 2 SCL, 3 V_{SS}, 4 NC, 5 V_{DD}, 6 BAT, 7 SRN, 8 SRP, 9 NC, 10 BIN, 11 NC, 12 GPOUT, 13 PAD

## BQ27750
designator *  value BQ27750  Reference: U
System Side Li Ion/Polymer Fuel Gauge, VSON-12; ki_fp_filters: Texas*PDSO*N12*; Footprint: Package_SON:Texas_S-PDSO-N12; Datasheet: http://www.ti.com/lit/ds/symlink/bq27750.pdf; Description_: System Side Li Ion/Polymer Fuel Gauge, VSON-12; ki_keywords: Fuel Gauge
pins: 1 VSS, 2 SRN, 3 SRP, 4 TS1, 5 SCL, 6 SDA, 7 DSG, 8 PACK, 9 CHG, 10 PBI, 11 BAT, 12 VCELL/INT, 13 VSS

## BQ51050BRHL
designator *  value BQ51050BRHL  Reference: U
Qi v1.2, Wireless Power Receiver and Battery Charger, Vout 4.2V, VQFN-20; ki_keywords: Qi Wireless Power Receiver Battery Charger 4.2V; ki_fp_filters: Texas?VQFN?RHL*; Footprint: Package_DFN_QFN:Texas_VQFN-RHL-20; Datasheet: http://www.ti.com/lit/ds/symlink/bq51050b.pdf; Description_: Qi v1.2, Wireless Power Receiver and Battery Charger, Vout 4.2V, VQFN-20
pins: 1 PGND, 2 AC1, 3 BOOT1, 4 BAT, 5 CLAMP1, 6 COMM1, 7 ~{{CHG}}, 8 ~{{AD-EN}}, 9 AD, 10 TERM, 11 EN2, 12 ILIM, 13 TS/CTRL, 14 FOD, 15 COMM2, 16 CLAMP2, 17 BOOT2, 18 RECT, 19 AC2, 20 PGND, 21 PGND

## BQ51050BYFP
designator *  value BQ51050BYFP  Reference: U
Qi v1.2, Wireless Power Receiver and Battery Charger, Vout 4.2V, DSBGA-28; ki_keywords: Qi Wireless Power Receiver Battery Charger 4.2V; ki_fp_filters: Texas*DSBGA*1.9x3mm*Layout4x7*P0.4mm*; Footprint: Package_BGA:Texas_DSBGA-28_1.9x3mm_Layout4x7_P0.4mm; Datasheet: http://www.ti.com/lit/ds/symlink/bq51050b.pdf; Description_: Qi v1.2, Wireless Power Receiver and Battery Charger, Vout 4.2V, DSBGA-28
pins: A1 PGND, A2 PGND, A3 PGND, A4 PGND, B1 AC2, B2 AC2, B3 AC1, B4 AC1, C1 BOOT2, C2 RECT, C3 RECT, C4 BOOT1, D1 BAT, D2 BAT, D3 BAT, D4 BAT, E1 COMM2, E2 CLAMP2, E3 CLAMP1, E4 COMM1, F1 TS/CTRL, F2 FOD, F3 ~{{AD-EN}}, F4 ~{{CHG}}, G1 ILIM, G2 EN2, G3 TERM, G4 AD

## BQ51051BRHL
designator *  value BQ51051BRHL  Reference: U
Qi v1.2, Wireless Power Receiver and Battery Charger, Vout 4.35V, VQFN-20; ki_keywords: Qi Wireless Power Receiver Battery Charger 4.35V; ki_fp_filters: Texas?VQFN?RHL*; Footprint: Package_DFN_QFN:Texas_VQFN-RHL-20; Datasheet: http://www.ti.com/lit/ds/symlink/bq51051b.pdf; Description_: Qi v1.2, Wireless Power Receiver and Battery Charger, Vout 4.35V, VQFN-20
pins: 1 PGND, 2 AC1, 3 BOOT1, 4 BAT, 5 CLAMP1, 6 COMM1, 7 ~{{CHG}}, 8 ~{{AD-EN}}, 9 AD, 10 TERM, 11 EN2, 12 ILIM, 13 TS/CTRL, 14 FOD, 15 COMM2, 16 CLAMP2, 17 BOOT2, 18 RECT, 19 AC2, 20 PGND, 21 PGND

## BQ51051BYFP
designator *  value BQ51051BYFP  Reference: U
Qi v1.2, Wireless Power Receiver and Battery Charger, Vout 4.35V, DSBGA-28; ki_keywords: Qi Wireless Power Receiver Battery Charger 4.35V; ki_fp_filters: Texas*DSBGA*1.9x3mm*Layout4x7*P0.4mm*; Footprint: Package_BGA:Texas_DSBGA-28_1.9x3mm_Layout4x7_P0.4mm; Datasheet: http://www.ti.com/lit/ds/symlink/bq51051b.pdf; Description_: Qi v1.2, Wireless Power Receiver and Battery Charger, Vout 4.35V, DSBGA-28
pins: A1 PGND, A2 PGND, A3 PGND, A4 PGND, B1 AC2, B2 AC2, B3 AC1, B4 AC1, C1 BOOT2, C2 RECT, C3 RECT, C4 BOOT1, D1 BAT, D2 BAT, D3 BAT, D4 BAT, E1 COMM2, E2 CLAMP2, E3 CLAMP1, E4 COMM1, F1 TS/CTRL, F2 FOD, F3 ~{{AD-EN}}, F4 ~{{CHG}}, G1 ILIM, G2 EN2, G3 TERM, G4 AD

## BQ51052BYFP
designator *  value BQ51052BYFP  Reference: U
Qi v1.2, Wireless Power Receiver and Battery Charger, Vout 4.40V, DSBGA-28; ki_keywords: Qi Wireless Power Receiver Battery Charger 4.40V; ki_fp_filters: Texas*DSBGA*1.9x3mm*Layout4x7*P0.4mm*; Footprint: Package_BGA:Texas_DSBGA-28_1.9x3mm_Layout4x7_P0.4mm; Datasheet: http://www.ti.com/lit/ds/symlink/bq51052b.pdf; Description_: Qi v1.2, Wireless Power Receiver and Battery Charger, Vout 4.40V, DSBGA-28
pins: A1 PGND, A2 PGND, A3 PGND, A4 PGND, B1 AC2, B2 AC2, B3 AC1, B4 AC1, C1 BOOT2, C2 RECT, C3 RECT, C4 BOOT1, D1 BAT, D2 BAT, D3 BAT, D4 BAT, E1 COMM2, E2 CLAMP2, E3 CLAMP1, E4 COMM1, F1 TS/CTRL, F2 FOD, F3 ~{{AD-EN}}, F4 ~{{CHG}}, G1 ILIM, G2 EN2, G3 TERM, G4 AD

## BQ76200PW
designator *  value BQ76200PW  Reference: U
High Voltage Battery Pack Front-End Charge/Discharge High-Side NFET Driver, TSSOP-16; ki_keywords: Battery Pack Charge/Discharge High-Side; ki_fp_filters: TSSOP*4.4x5mm*P0.65mm*; Footprint: Package_SO:TSSOP-16_4.4x5mm_P0.65mm; Datasheet: http://www.ti.com/lit/ds/symlink/bq76200.pdf; Description_: High Voltage Battery Pack Front-End Charge/Discharge High-Side NFET Driver, TSSOP-16
pins: 1 VDDCP, 2 BAT, 3 NC, 4 CHG_EN, 5 CP_EN, 6 DSG_EN, 7 PMON_EN, 8 PCHG_EN, 9 VSS, 10 PACKDIV, 11 PACK, 12 DSG, 13 NC, 14 PCHG, 15 NC, 16 CHG

## BQ76920PW
designator *  value BQ76920PW  Reference: U
Lithium battery monitor, 3-5 cells, integrated balancing, I2C interface, TSSOP-20; ki_keywords: lithium battery balance charge afe; ki_fp_filters: TSSOP*4.4x6.5mm*P0.65mm*; Footprint: Package_SO:TSSOP-20_4.4x6.5mm_P0.65mm; Datasheet: http://www.ti.com/lit/ds/symlink/bq76920.pdf; Description_: Lithium battery monitor, 3-5 cells, integrated balancing, I2C interface, TSSOP-20
pins: 1 DSG, 2 CHG, 3 VSS, 4 SDA, 5 SCL, 6 TS1, 7 CAP1, 8 REGOUT, 9 REGSRC, 10 BAT, 11 NC, 12 VC5, 13 VC4, 14 VC3, 15 VC2, 16 VC1, 17 VC0, 18 SRP, 19 SRN, 20 ALERT

## BQ76930DBT
designator *  value BQ76930DBT  Reference: U
Lithium battery monitor, 6-10 cells, integrated balancing, I2C interface, TSSOP-30; ki_keywords: lithium battery balance charge afe; ki_fp_filters: TSSOP*4.4x7.8mm*P0.5mm*; Footprint: Package_SO:TSSOP-30_4.4x7.8mm_P0.5mm; Datasheet: http://www.ti.com/lit/ds/symlink/bq76930.pdf; Description_: Lithium battery monitor, 6-10 cells, integrated balancing, I2C interface, TSSOP-30
pins: 1 DSG, 2 CHG, 3 VSS, 4 SDA, 5 SCL, 6 TS1, 7 CAP1, 8 REGOUT, 9 REGSRC, 10 VC5X, 11 NC(CAP2), 12 NC(CAP2), 13 TS2, 14 CAP2, 15 BAT, 16 VC10, 17 VC9, 18 VC8, 19 VC7, 20 VC6, 21 VC5B, 22 VC5, 23 VC4, 24 VC3, 25 VC2, 26 VC1, 27 VC0, 28 SRP, 29 SRN, 30 ALERT

## BQ76940DBT
designator *  value BQ76940DBT  Reference: U
Lithium battery monitor, 9-15 cells, integrated balancing, I2C interface, TSSOP-44; ki_keywords: lithium battery balance charge afe; ki_fp_filters: TSSOP*4.4x11.2mm*P0.5mm*; Footprint: Package_SO:TSSOP-44_4.4x11.2mm_P0.5mm; Datasheet: http://www.ti.com/lit/ds/symlink/bq76940.pdf; Description_: Lithium battery monitor, 9-15 cells, integrated balancing, I2C interface, TSSOP-44
pins: 1 DSG, 2 CHG, 3 VSS, 4 SDA, 5 SCL, 6 TS1, 7 CAP1, 8 REGOUT, 9 REGSRC, 10 VC5X, 11 NC(CAP2), 12 NC(CAP2), 13 TS2, 14 CAP2, 15 VC10X, 16 NC(CAP3), 17 NC(CAP3), 18 TS3, 19 CAP3, 20 BAT, 21 NC, 22 NC, 23 NC, 24 VC15, 25 VC14, 26 VC13, 27 VC12, 28 VC11, 29 VC10B, 30 VC10, 31 VC9, 32 VC8, 33 VC7, 34 VC6, 35 VC5B, 36 VC5, 37 VC4, 38 VC3, 39 VC2, 40 VC1, 41 VC0, 42 SRP, 43 SRN, 44 ALERT

## BQ78350DBT
designator *  value BQ78350DBT  Reference: U
Lithium battery fuel gauge, battery management controller for BQ769x0, TSSOP-30; ki_keywords: battery management Li-Ion Gauge controller; ki_fp_filters: TSSOP*4.4x7.8mm*P0.5mm*; Footprint: Package_SO:TSSOP-30_4.4x7.8mm_P0.5mm; Datasheet: http://www.ti.com/lit/ds/symlink/bq78350.pdf; Description_: Lithium battery fuel gauge, battery management controller for BQ769x0, TSSOP-30
pins: 1 COM, 2 ALERT, 3 SDA, 4 SCL, 5 ~{{PRECHG}}, 6 VAUX, 7 BAT, 8 ~{{PRES}}, 9 ~{{KEYIN}}, 10 SAFE, 11 SMBD, 12 VEN, 13 SMBC, 14 ~{{DISP}}, 15 PWRM, 16 LED1, 17 LED2, 18 LED3, 19 LED4, 20 LED5, 21 GPIO_A, 22 VSS, 23 VSS, 24 ~{{MRST}}, 25 VSS, 26 VCC, 27 RBI, 28 GPIO_B, 29 ADREN, 30 SMBA

## BQ78350DBT-R1
designator *  value BQ78350DBT-R1  Reference: U
Lithium battery fuel gauge, battery management controller for BQ769x0, TSSOP-30; ki_keywords: battery management Li-Ion gauge controller; ki_fp_filters: TSSOP*4.4x7.8mm*P0.5mm*; Footprint: Package_SO:TSSOP-30_4.4x7.8mm_P0.5mm; Datasheet: http://www.ti.com/lit/ds/symlink/bq78350-r1.pdf; Description_: Lithium battery fuel gauge, battery management controller for BQ769x0, TSSOP-30
pins: 1 COM, 2 ALERT, 3 SDA, 4 SCL, 5 ~{{PRECHG}}, 6 VAUX, 7 BAT, 8 ~{{PRES}}, 9 ~{{KEYIN}}, 10 SAFE, 11 SMBD, 12 VEN, 13 SMBC, 14 ~{{DISP}}, 15 PWRM, 16 LED1, 17 LED2, 18 LED3, 19 LED4, 20 LED5, 21 GPIO_A, 22 VSS, 23 VSS, 24 ~{{MRST}}, 25 VSS, 26 VCC, 27 RBI, 28 GPIO_B, 29 ADREN, 30 SMBA

## DS2745U
designator *  value DS2745U  Reference: U
Current-flow, voltage and temperature measurement to support battery capacity monitoring, 2.5V to 4.5V VDD, -40 to +85 degree Celsius, TSSOP-8; ki_keywords: battery capacity monitor I2C; ki_fp_filters: TSSOP*3x3mm*P0.65mm*; Footprint: Package_SO:TSSOP-8_3x3mm_P0.65mm; Datasheet: https://datasheets.maximintegrated.com/en/ds/DS2745.pdf; Description_: Current-flow, voltage and temperature measurement to support battery capacity monitoring, 2.5V to 4.5V VDD, -40 to +85 degree Celsius, TSSOP-8
pins: 1 SCL, 2 SDA, 3 PIO, 4 SNS, 5 V_{SS}, 6 CTG, 7 VIN, 8 V_{DD}

## DW01A
designator *  value DW01A  Reference: U
Overcharge, overcurrent and overdischarge protection IC for single cell lithium-ion/polymer battery; ki_keywords: battery protection li-ion lipo overcurrent overdischarge overcharge; ki_fp_filters: SOT?23*; Footprint: Package_TO_SOT_SMD:SOT-23-6; Datasheet: https://hmsemi.com/downfile/DW01A.PDF; Description_: Overcharge, overcurrent and overdischarge protection IC for single cell lithium-ion/polymer battery
pins: 1 OD, 2 CS, 3 OC, 4 TD, 5 VCC, 6 GND

## LC709203FQH-01TWG
designator *  value LC709203FQH-01TWG  Reference: U
Single LiPo battery fuel gauge, I2C, type 01, WDFN-8; ki_keywords: Battery gauge I2C; ki_fp_filters: WDFN*1EP*4x3mm*P0.65mm*; Footprint: Package_DFN_QFN:WDFN-8-1EP_4x3mm_P0.65mm_EP2.4x1.8mm; Datasheet: https://www.onsemi.com/download/data-sheet/pdf/lc709203f-d.pdf; Description_: Single LiPo battery fuel gauge, I2C, type 01, WDFN-8
pins: 1 TEST, 2 V_{SS}, 3 V_{DD}, 4 ~{{ALARMB}}, 5 T_{SW}, 6 T_{SENSE}, 7 SDA, 8 SCL, 9 EP

## LC709203FQH-02TWG
designator *  value LC709203FQH-02TWG  Reference: U
Single LiPo battery fuel gauge, I2C, type 02, WDFN-8; ki_keywords: Battery gauge I2C; ki_fp_filters: WDFN*1EP*4x3mm*P0.65mm*; Footprint: Package_DFN_QFN:WDFN-8-1EP_4x3mm_P0.65mm_EP2.4x1.8mm; Datasheet: https://www.onsemi.com/download/data-sheet/pdf/lc709203f-d.pdf; Description_: Single LiPo battery fuel gauge, I2C, type 02, WDFN-8
pins: 1 TEST, 2 V_{SS}, 3 V_{DD}, 4 ~{{ALARMB}}, 5 T_{SW}, 6 T_{SENSE}, 7 SDA, 8 SCL, 9 EP

## LC709203FQH-03TWG
designator *  value LC709203FQH-03TWG  Reference: U
Single LiPo battery fuel gauge, I2C, type 03, WDFN-8; ki_keywords: Battery gauge I2C; ki_fp_filters: WDFN*1EP*4x3mm*P0.65mm*; Footprint: Package_DFN_QFN:WDFN-8-1EP_4x3mm_P0.65mm_EP2.4x1.8mm; Datasheet: https://www.onsemi.com/download/data-sheet/pdf/lc709203f-d.pdf; Description_: Single LiPo battery fuel gauge, I2C, type 03, WDFN-8
pins: 1 TEST, 2 V_{SS}, 3 V_{DD}, 4 ~{{ALARMB}}, 5 T_{SW}, 6 T_{SENSE}, 7 SDA, 8 SCL, 9 EP

## LC709203FQH-04TWG
designator *  value LC709203FQH-04TWG  Reference: U
Single LiPo battery fuel gauge, I2C, type 04, WDFN-8; ki_keywords: Battery gauge I2C; ki_fp_filters: WDFN*1EP*4x3mm*P0.65mm*; Footprint: Package_DFN_QFN:WDFN-8-1EP_4x3mm_P0.65mm_EP2.4x1.8mm; Datasheet: https://www.onsemi.com/download/data-sheet/pdf/lc709203f-d.pdf; Description_: Single LiPo battery fuel gauge, I2C, type 04, WDFN-8
pins: 1 TEST, 2 V_{SS}, 3 V_{DD}, 4 ~{{ALARMB}}, 5 T_{SW}, 6 T_{SENSE}, 7 SDA, 8 SCL, 9 EP

## LGS5500EP
designator *  value LGS5500EP  Reference: U
LiPo charger and 5V boost converter, 4.5-5.5V input, 4.2-4.4V battery, 400-1000mA charge current, 800mA boost output, SOIC-8-1EP; ki_keywords: lipo lithium battery charger boost; ki_fp_filters: SOIC*1EP*P1.27mm*; Footprint: Package_SO:SOIC-8-1EP_3.9x4.9mm_P1.27mm_EP2.41x3.3mm; Datasheet: https://www.lcsc.com/datasheet/lcsc_datasheet_2304071430_Legend-Si-LGS5500EP_C5280699.pdf; Description_: LiPo charger and 5V boost converter, 4.5-5.5V input, 4.2-4.4V battery, 400-1000mA charge current, 800mA boost output, SOIC-8-1EP
pins: 1 ISET, 2 VIN, 3 VL, 4 LX, 5 VH, 6 NC, 7 VSET/LED, 8 NTC, 9 GND

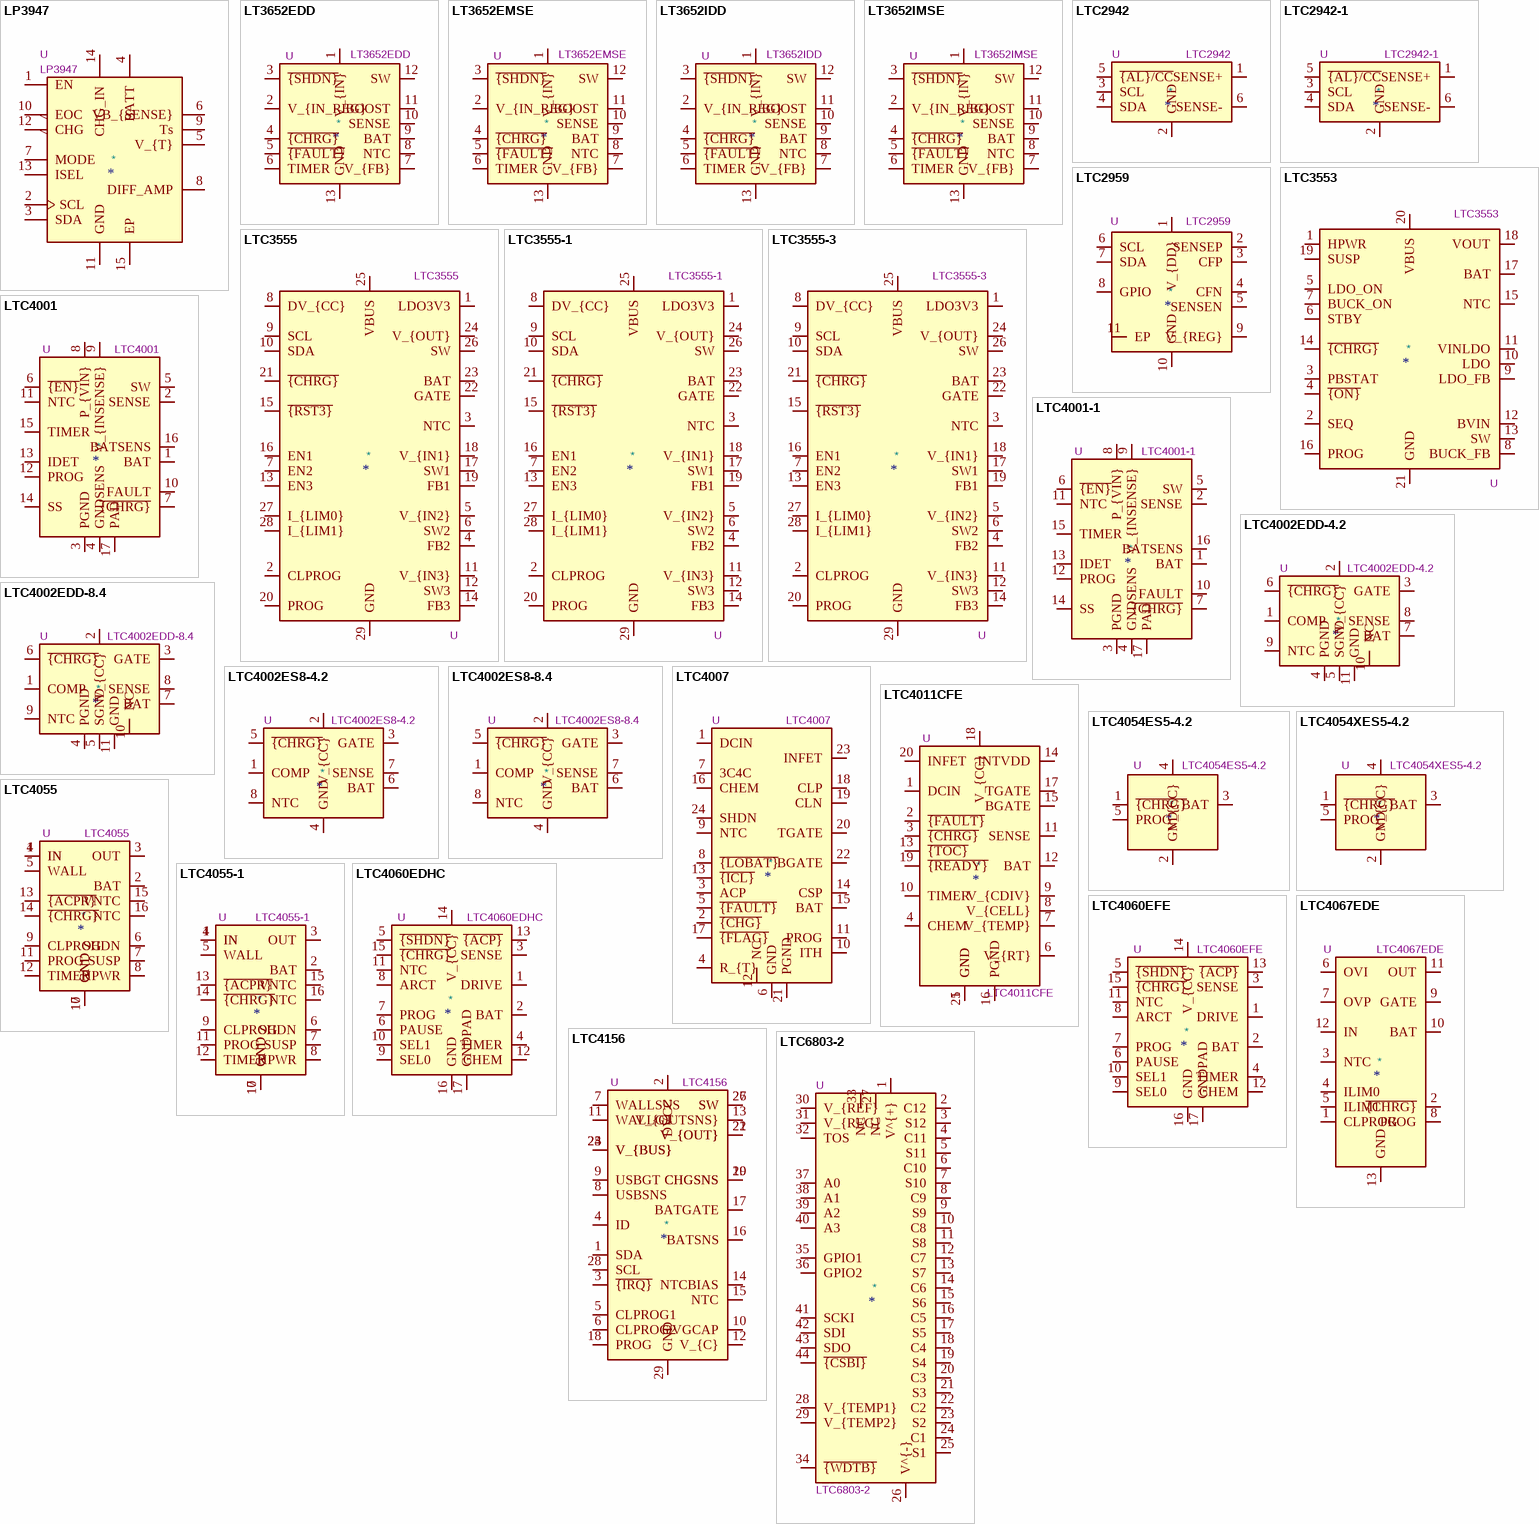
[diagram p2: symbols LP3947 to LTC6803-2]

## LP3947
designator *  value LP3947  Reference: U
Single Cell Li-Ion LDO Battery Charger IC, Up to 1A, Support USB charging scheme; ki_keywords: li-ion battery charger usb; ki_fp_filters: WSON*4.0x4.0mm*P0.5mm*; Footprint: Package_SON:WSON-14-1EP_4.0x4.0mm_P0.5mm_EP2.6x2.6mm; Datasheet: http://www.ti.com/lit/ds/symlink/lp3947.pdf; Description_: Single Cell Li-Ion LDO Battery Charger IC, Up to 1A, Support USB charging scheme
pins: 1 EN, 2 SCL, 3 SDA, 4 BATT, 5 V_{T}, 6 VB_{SENSE}, 7 MODE, 8 DIFF_AMP, 9 Ts, 10 EOC, 11 GND, 12 CHG, 13 ISEL, 14 CHG_IN, 15 EP

## LT3652EDD
designator *  value LT3652EDD  Reference: U
Step-down battery charger for solar power, Lithium Phosphate (LiFePO4), Lead (Pb), Lithium+ (Li+) , 4.95V to 32V VDD, 2A, -40 to +125 degree Celsius, DFN-12; ki_keywords: battery charger solar; ki_fp_filters: DFN*1EP*3x3mm*P0.45mm*; Footprint: Package_DFN_QFN:DFN-12-1EP_3x3mm_P0.45mm_EP1.65x2.38mm; Datasheet: https://www.analog.com/media/en/technical-documentation/data-sheets/3652fe.pdf; Description_: Step-down battery charger for solar power, Lithium Phosphate (LiFePO4), Lead (Pb), Lithium+ (Li+) , 4.95V to 32V VDD, 2A, -40 to +125 degree Celsius, DFN-12
pins: 1 V_{IN}, 2 V_{IN_REG}, 3 ~{{SHDN}}, 4 ~{{CHRG}}, 5 ~{{FAULT}}, 6 TIMER, 7 V_{FB}, 8 NTC, 9 BAT, 10 SENSE, 11 BOOST, 12 SW, 13 GND

## LT3652EMSE
designator *  value LT3652EMSE  Reference: U
Step-down battery charger for solar power, Lithium Phosphate (LiFePO4), Lead (Pb), Lithium+ (Li+) , 4.95V to 32V VDD, 2A, -40 to +125 degree Celsius, MSOP-12; ki_keywords: battery charger solar; ki_fp_filters: MSOP*1EP*3x4.039mm*P0.65mm*; Footprint: Package_SO:MSOP-12-1EP_3x4.039mm_P0.65mm_EP1.651x2.845mm; Datasheet: https://www.analog.com/media/en/technical-documentation/data-sheets/3652fe.pdf; Description_: Step-down battery charger for solar power, Lithium Phosphate (LiFePO4), Lead (Pb), Lithium+ (Li+) , 4.95V to 32V VDD, 2A, -40 to +125 degree Celsius, MSOP-12
pins: 1 V_{IN}, 2 V_{IN_REG}, 3 ~{{SHDN}}, 4 ~{{CHRG}}, 5 ~{{FAULT}}, 6 TIMER, 7 V_{FB}, 8 NTC, 9 BAT, 10 SENSE, 11 BOOST, 12 SW, 13 GND

## LT3652IDD
designator *  value LT3652IDD  Reference: U
Step-down battery charger for solar power, Lithium Phosphate (LiFePO4), Lead (Pb), Lithium+ (Li+) , 4.95V to 32V VDD, 2A, -40 to +125 degree Celsius, DFN-12; ki_keywords: battery charger solar; ki_fp_filters: DFN*1EP*3x3mm*P0.45mm*; Footprint: Package_DFN_QFN:DFN-12-1EP_3x3mm_P0.45mm_EP1.65x2.38mm; Datasheet: https://www.analog.com/media/en/technical-documentation/data-sheets/3652fe.pdf; Description_: Step-down battery charger for solar power, Lithium Phosphate (LiFePO4), Lead (Pb), Lithium+ (Li+) , 4.95V to 32V VDD, 2A, -40 to +125 degree Celsius, DFN-12
pins: 1 V_{IN}, 2 V_{IN_REG}, 3 ~{{SHDN}}, 4 ~{{CHRG}}, 5 ~{{FAULT}}, 6 TIMER, 7 V_{FB}, 8 NTC, 9 BAT, 10 SENSE, 11 BOOST, 12 SW, 13 GND

## LT3652IMSE
designator *  value LT3652IMSE  Reference: U
Step-down battery charger for solar power, Lithium Phosphate (LiFePO4), Lead (Pb), Lithium+ (Li+) , 4.95V to 32V VDD, 2A, -40 to +125 degree Celsius, MSOP-12; ki_keywords: battery charger solar; ki_fp_filters: MSOP*1EP*3x4.039mm*P0.65mm*; Footprint: Package_SO:MSOP-12-1EP_3x4.039mm_P0.65mm_EP1.651x2.845mm; Datasheet: https://www.analog.com/media/en/technical-documentation/data-sheets/3652fe.pdf; Description_: Step-down battery charger for solar power, Lithium Phosphate (LiFePO4), Lead (Pb), Lithium+ (Li+) , 4.95V to 32V VDD, 2A, -40 to +125 degree Celsius, MSOP-12
pins: 1 V_{IN}, 2 V_{IN_REG}, 3 ~{{SHDN}}, 4 ~{{CHRG}}, 5 ~{{FAULT}}, 6 TIMER, 7 V_{FB}, 8 NTC, 9 BAT, 10 SENSE, 11 BOOST, 12 SW, 13 GND

## LTC2942
designator *  value LTC2942  Reference: U
Battery Gas Gauge with Temperature, Voltage Measurement, DFN-6; ki_keywords: Fuel gauge coulomb counter I2C; ki_fp_filters: DFN*1EP*3x2mm*P0.5mm*; Footprint: Package_DFN_QFN:DFN-6-1EP_3x2mm_P0.5mm_EP1.65x1.35mm; Datasheet: https://www.analog.com/media/en/technical-documentation/data-sheets/2942fa.pdf; Description_: Battery Gas Gauge with Temperature, Voltage Measurement, DFN-6
pins: 1 SENSE+, 2 GND, 3 SCL, 4 SDA, 5 ~{{AL}/CC}, 6 SENSE-

## LTC2942-1
designator *  value LTC2942-1  Reference: U
1A Battery Gas Gauge with Internal Sense Resistor and Temperature/Voltage Measurement, DFN-6; ki_keywords: Fuel gauge coulomb counter I2C; ki_fp_filters: DFN*1EP*3x2mm*P0.5mm*; Footprint: Package_DFN_QFN:DFN-6-1EP_3x2mm_P0.5mm_EP1.65x1.35mm; Datasheet: https://www.analog.com/media/en/technical-documentation/data-sheets/29421f.pdf; Description_: 1A Battery Gas Gauge with Internal Sense Resistor and Temperature/Voltage Measurement, DFN-6
pins: 1 SENSE+, 2 GND, 3 SCL, 4 SDA, 5 ~{{AL}/CC}, 6 SENSE-

## LTC2959
designator *  value LTC2959  Reference: U
Ultra-Low Power Battery Gas Gauge with Temperature, Voltage Measurement, DFN-10; ki_keywords: Ultra-low power fuel gauge coulomb counter I2C; ki_fp_filters: DFN*1EP*2x3mm*P0.5mm*; Footprint: Package_DFN_QFN:DFN-10-1EP_2x3mm_P0.5mm_EP0.64x2.4mm; Datasheet: https://www.analog.com/media/en/technical-documentation/data-sheets/ltc2959.pdf; Description_: Ultra-Low Power Battery Gas Gauge with Temperature, Voltage Measurement, DFN-10
pins: 1 V_{DD}, 2 SENSEP, 3 CFP, 4 CFN, 5 SENSEN, 6 SCL, 7 SDA, 8 GPIO, 9 V_{REG}, 10 GND, 11 EP

## LTC3553
designator *  value LTC3553  Reference: U
Micropower USB Power Manager With Li-Ion Charger, LDO and Buck Regulator, 4.2V float, QFN-20; ki_keywords: USB PMIC; ki_fp_filters: *QFN*3x3mm*P0.4mm*; Footprint: Package_DFN_QFN:QFN-20-1EP_3x3mm_P0.4mm_EP1.65x1.65mm; Datasheet: https://www.analog.com/media/en/technical-documentation/data-sheets/3553fc.pdf; Description_: Micropower USB Power Manager With Li-Ion Charger, LDO and Buck Regulator, 4.2V float, QFN-20
pins: 1 HPWR, 2 SEQ, 3 PBSTAT, 4 ~{{ON}}, 5 LDO_ON, 6 STBY, 7 BUCK_ON, 8 BUCK_FB, 9 LDO_FB, 10 LDO, 11 VINLDO, 12 BVIN, 13 SW, 14 ~{{CHRG}}, 15 NTC, 16 PROG, 17 BAT, 18 VOUT, 19 SUSP, 20 VBUS, 21 GND

## LTC3555
designator *  value LTC3555  Reference: U
High Efficiency USB Power Manager + Triple Step-Down DC/DC, 4.2V float, QFN-28; ki_keywords: USB PMIC; ki_fp_filters: QFN*4x5mm*P0.5mm*; Footprint: Package_DFN_QFN:QFN-28-1EP_4x5mm_P0.5mm_EP2.65x3.65mm; Datasheet: https://www.analog.com/media/en/technical-documentation/data-sheets/3555fe.pdf; Description_: High Efficiency USB Power Manager + Triple Step-Down DC/DC, 4.2V float, QFN-28
pins: 1 LDO3V3, 2 CLPROG, 3 NTC, 4 FB2, 5 V_{IN2}, 6 SW2, 7 EN2, 8 DV_{CC}, 9 SCL, 10 SDA, 11 V_{IN3}, 12 SW3, 13 EN3, 14 FB3, 15 ~{{RST3}}, 16 EN1, 17 SW1, 18 V_{IN1}, 19 FB1, 20 PROG, 21 ~{{CHRG}}, 22 GATE, 23 BAT, 24 V_{OUT}, 25 VBUS, 26 SW, 27 I_{LIM0}, 28 I_{LIM1}, 29 GND

## LTC3555-1
designator *  value LTC3555-1  Reference: U
High Efficiency USB Power Manager + Triple Step-Down DC/DC, instant-on power, 4.2V float, QFN-28; ki_keywords: USB PMIC; ki_fp_filters: QFN*4x5mm*P0.5mm*; Footprint: Package_DFN_QFN:QFN-28-1EP_4x5mm_P0.5mm_EP2.65x3.65mm; Datasheet: https://www.analog.com/media/en/technical-documentation/data-sheets/3555fe.pdf; Description_: High Efficiency USB Power Manager + Triple Step-Down DC/DC, instant-on power, 4.2V float, QFN-28
pins: 1 LDO3V3, 2 CLPROG, 3 NTC, 4 FB2, 5 V_{IN2}, 6 SW2, 7 EN2, 8 DV_{CC}, 9 SCL, 10 SDA, 11 V_{IN3}, 12 SW3, 13 EN3, 14 FB3, 15 ~{{RST3}}, 16 EN1, 17 SW1, 18 V_{IN1}, 19 FB1, 20 PROG, 21 ~{{CHRG}}, 22 GATE, 23 BAT, 24 V_{OUT}, 25 VBUS, 26 SW, 27 I_{LIM0}, 28 I_{LIM1}, 29 GND

## LTC3555-3
designator *  value LTC3555-3  Reference: U
High Efficiency USB Power Manager + Triple Step-Down DC/DC, instant-on power, 4.1V float, QFN-28; ki_keywords: USB PMIC; ki_fp_filters: QFN*4x5mm*P0.5mm*; Footprint: Package_DFN_QFN:QFN-28-1EP_4x5mm_P0.5mm_EP2.65x3.65mm; Datasheet: https://www.analog.com/media/en/technical-documentation/data-sheets/3555fe.pdf; Description_: High Efficiency USB Power Manager + Triple Step-Down DC/DC, instant-on power, 4.1V float, QFN-28
pins: 1 LDO3V3, 2 CLPROG, 3 NTC, 4 FB2, 5 V_{IN2}, 6 SW2, 7 EN2, 8 DV_{CC}, 9 SCL, 10 SDA, 11 V_{IN3}, 12 SW3, 13 EN3, 14 FB3, 15 ~{{RST3}}, 16 EN1, 17 SW1, 18 V_{IN1}, 19 FB1, 20 PROG, 21 ~{{CHRG}}, 22 GATE, 23 BAT, 24 V_{OUT}, 25 VBUS, 26 SW, 27 I_{LIM0}, 28 I_{LIM1}, 29 GND

## LTC4001
designator *  value LTC4001  Reference: U
Single cell (4.2V) programmable synchronous buck Li-Ion charger, 2A, 5.5V input, QFN-16; ki_fp_filters: QFN*1EP*4x4mm*P0.65mm*; Footprint: Package_DFN_QFN:QFN-16-1EP_4x4mm_P0.65mm_EP2.15x2.15mm; Datasheet: https://www.analog.com/media/en/technical-documentation/data-sheets/4001f.pdf; Description_: Single cell (4.2V) programmable synchronous buck Li-Ion charger, 2A, 5.5V input, QFN-16; ki_keywords: Li-Ion charger
pins: 1 BAT, 2 SENSE, 3 PGND, 4 GNDSENS, 5 SW, 6 ~{{EN}}, 7 ~{{CHRG}}, 8 P_{VIN}, 9 V_{INSENSE}, 10 FAULT, 11 NTC, 12 PROG, 13 IDET, 14 SS, 15 TIMER, 16 BATSENS, 17 PAD

## LTC4001-1
designator *  value LTC4001-1  Reference: U
Single cell (4.1V) programmable synchronous buck Li-Ion charger, 2A, 5.5V input, QFN-16; ki_fp_filters: QFN*1EP*4x4mm*P0.65mm*; Footprint: Package_DFN_QFN:QFN-16-1EP_4x4mm_P0.65mm_EP2.15x2.15mm; Datasheet: https://www.analog.com/media/en/technical-documentation/data-sheets/40011fa.pdf; Description_: Single cell (4.1V) programmable synchronous buck Li-Ion charger, 2A, 5.5V input, QFN-16; ki_keywords: Li-Ion Charger
pins: 1 BAT, 2 SENSE, 3 PGND, 4 GNDSENS, 5 SW, 6 ~{{EN}}, 7 ~{{CHRG}}, 8 P_{VIN}, 9 V_{INSENSE}, 10 FAULT, 11 NTC, 12 PROG, 13 IDET, 14 SS, 15 TIMER, 16 BATSENS, 17 PAD

## LTC4002EDD-4.2
designator *  value LTC4002EDD-4.2  Reference: U
Standalone Li-Ion Switch Mode Battery Charger, 4.7-22V input, single cell, DFN-10; ki_keywords: lithium li-ion battery charger; ki_fp_filters: DFN*10*1EP*3x3mm*P0.5mm*; Footprint: Package_DFN_QFN:DFN-10-1EP_3x3mm_P0.5mm_EP1.55x2.48mm; Datasheet: https://www.analog.com/media/en/technical-documentation/data-sheets/4002f.pdf; Description_: Standalone Li-Ion Switch Mode Battery Charger, 4.7-22V input, single cell, DFN-10
pins: 1 COMP, 2 V_{CC}, 3 GATE, 4 PGND, 5 SGND, 6 ~{{CHRG}}, 7 BAT, 8 SENSE, 9 NTC, 10 NC, 11 GND

## LTC4002EDD-8.4
designator *  value LTC4002EDD-8.4  Reference: U
Standalone Li-Ion Switch Mode Battery Charger, 8.9-22V input, double cell, DFN-10; ki_keywords: lithium li-ion battery charger; ki_fp_filters: DFN*10*1EP*3x3mm*P0.5mm*; Footprint: Package_DFN_QFN:DFN-10-1EP_3x3mm_P0.5mm_EP1.55x2.48mm; Datasheet: https://www.analog.com/media/en/technical-documentation/data-sheets/4002f.pdf; Description_: Standalone Li-Ion Switch Mode Battery Charger, 8.9-22V input, double cell, DFN-10
pins: 1 COMP, 2 V_{CC}, 3 GATE, 4 PGND, 5 SGND, 6 ~{{CHRG}}, 7 BAT, 8 SENSE, 9 NTC, 10 NC, 11 GND